# Altium footprint library PcbLib1.PcbLib: 35 footprints (part 2 of 3)
Each footprint in its own frame and in the unit in brackets; x right, y up, seen from the top. Pads: shape width x height; smd on the part's side, far side on the other; paste and mask are expansions set on the pad; w line width, h text height; cw(c..) or ccw(c..) is an arc to the next point about the centre after c.
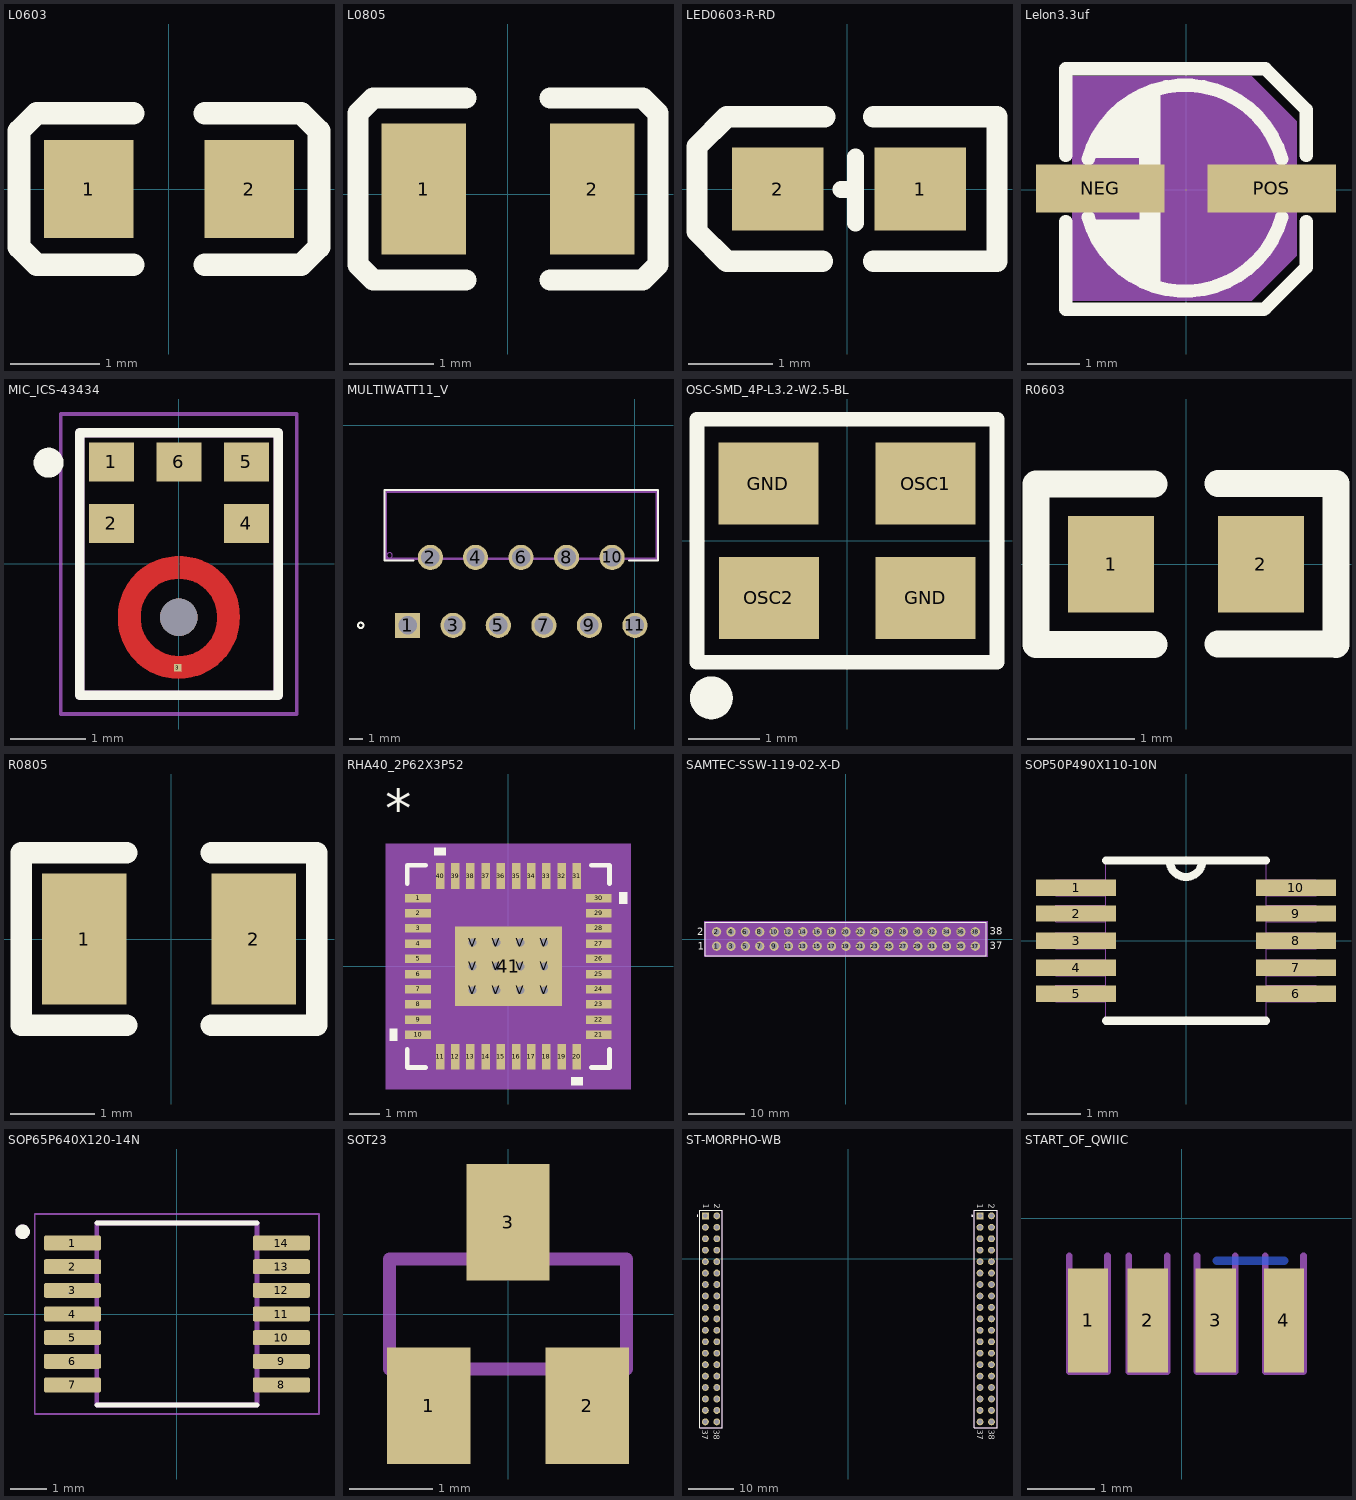
[diagram p1: the footprints below, top view; thin cyan lines are the x and y axes]

## L0603 [mm]
pads (2):
  rect 1x1.1 smd: 1(-0.9,0) 2(0.9,0)
Top Overlay:
  lines w0.254: -0.4,-0.85 -1.48,-0.85 -1.68,-0.65 -1.68,-0.62 -1.68,0.62 -1.68,0.65 -1.48,0.85 -0.4,0.85 ; 0.4,-0.85 1.48,-0.85 1.68,-0.65 1.68,-0.62 1.68,0.62 1.68,0.65 1.48,0.85 0.4,0.85

## L0805 [mm]
pads (2):
  rect 1x1.55 smd: 1(-0.998,0.064) 2(1.002,0.064)
Top Overlay:
  lines w0.254: -0.498,-1.016 -1.548,-1.016 -1.598,-1.016 -1.778,-0.836 -1.778,0.964 -1.598,1.144 -1.548,1.144 -0.498,1.144 ; 0.502,-1.016 1.552,-1.016 1.602,-1.016 1.782,-0.836 1.782,0.964 1.602,1.144 1.552,1.144 0.502,1.144

## LED0603-R-RD [mil]
pads (2):
  rect 43x39 smd: 1(34.5,0) 2(-32.5,0)
Top Overlay:
  lines w7.99: -2.9,-0.31 4,-0.31 ; 4,-16 4,15
  lines w10: -11.5,-34 -56.5,-34 -70.5,-20 -70.5,20 -56.5,34 -10.5,34 ; 12.5,-34 70.5,-34 70.5,34 12.5,34

## Lelon3.3uf [mm]
pads (2):
  rect 2.46x0.91 smd: NEG(-1.64,0.024) POS(1.64,0.024)
Top Overlay:
  region: -0.49,-1.816 -0.49,1.914 -1.17,1.564 -1.54,1.114 -1.78,0.764 -1.84,0.614 -0.89,0.614 -0.88,-0.576 -1.83,-0.576 -1.54,-1.186 -1.17,-1.566 -0.75,-1.766 -0.72,-1.816
  lines w0.254: -2.3,-0.607 -2.3,-2.286 1.49,-2.286 ; -2.3,0.655 -2.3,2.314 1.52,2.314 2.3,1.534 2.3,0.655 ; -1.87,-0.526 ccw(c-0.02,-0.024) 1.83,-0.526 ; -1.87,0.587 cw(c-0.02,0.084) 1.83,0.587 ; 1.52,-2.266 2.3,-1.486 2.3,-0.607
Mechanical 4:
  region: -2.18,-2.126 -2.18,2.174 1.26,2.174 2.12,1.314 2.12,-1.266 1.26,-2.126
Mechanical 5:
  region: -2.31,0.349 -2.31,-0.301 -0.51,-0.301 -0.51,0.349
  region: 2.29,0.349 2.29,-0.301 0.49,-0.301 0.49,0.349
Mechanical 15:
  region: 1.96,-0.016 1.375,-0.016 1.375,0.084 1.96,0.084
  region: 1.65,-0.289 1.65,0.296 1.75,0.296 1.75,-0.289
  region: -1.742,0.066 -1.157,0.066 -1.157,-0.034 -1.742,-0.034

## MIC_ICS-43434 [mm]
pads (7):
  rect 0.6x0.522 smd paste-1: 1(-0.9,1.361) 2(-0.9,0.539) 4(0.9,0.539) 5(0.9,1.361) 6(0,1.361)
  rect 0.1x0.1 smd paste-1 mask+0: 3(-0.015,-1.383)
  round 0.5 hole 0.5 unplated: ""(0,-0.713)
Top Layer:
  region: 249 vertices and 0 holes, not listed, extent -0.81,-1.53 0.81,0.1
Top Overlay:
  circle w0.2: c-1.737,1.35 r0.1
  lines w0.127: -1.325,-1.75 1.325,-1.75 1.325,1.75 -1.325,1.75 -1.325,-1.75
Top Paste:
  drawing of 9 lines, arcs and shapes, not listed
Top Solder:
  circle w0.5: c0,-0.713 r0.665
Mechanical 13:
  lines w0.127: -1.325,-1.753 -1.325,1.747 1.325,1.747 1.325,-1.753 -1.325,-1.753
Mechanical 15:
  lines w0.05: -1.575,-2.003 -1.575,2 1.575,2 1.575,-2.003 -1.575,-2.003

## MULTIWATT11_V [mil]
pads (11):
  rect 74x74 hole 54: 1(-669,-589)
  round 74 hole 54: 2(-602,-389) 3(-535,-589) 4(-469,-389) 5(-402,-589) 6(-335,-389) 7(-268,-589) 8(-201,-389) 9(-134,-589) 10(-67,-389) 11(0,-589)
Top Overlay:
  lines w6: -652,-398 -737,-398 -737,-191 68,-191 68,-398 -18,-398 ; -815,-589 ccw(c-807,-589) -799,-589 ccw(c-807,-589) -815,-589
Mechanical 13:
  lines w0: -730,-383 ccw(c-722,-383) -714,-383 ccw(c-722,-383) -730,-383
  lines w6: -732,-393 63,-393 63,-196 -732,-196 -732,-393

## OSC-SMD_4P-L3.2-W2.5-BL [mm]
pads (4):
  rect 1.4x1.15 smd: GND(-1.1,0.8) GND(1.1,-0.8) OSC1(1.1,0.8) OSC2(-1.092,-0.8)
Top Overlay:
  lines w0.203: -2.1,-1.7 2.1,-1.7 2.1,1.7 -2.1,1.7 -2.1,-1.7
  lines w0.3: -1.9,-2.05 ccw(c-1.899,-2.2) -1.897,-2.05

## R0603 [mm]
pads (2):
  rect 0.8x0.9 smd: 1(-0.7,0) 2(0.7,0)
Top Overlay:
  lines w0.254: -1.401,-0.75 -0.3,-0.75 ; -1.401,0.75 -0.3,0.75 ; -1.4,-0.75 -1.4,0.75 ; 0.301,-0.745 1.401,-0.745 ; 0.301,0.755 1.401,0.755 ; 1.401,-0.75 1.401,0.75

## R0805 [mm]
pads (2):
  rect 1x1.55 smd: 1(-1.028,0.004) 2(0.972,0.004)
Top Overlay:
  lines w0.254: -0.528,-1.016 -1.778,-1.016 -1.778,1.024 -0.528,1.024 ; 0.472,-1.016 1.722,-1.016 1.722,1.024 0.472,1.024

## RHA40_2P62X3P52 [mm]
pads (53):
  rect 0.85x0.28 smd paste-0.412: 1(-2.975,2.25) 2(-2.975,1.75) 3(-2.975,1.25) 4(-2.975,0.75) 5(-2.975,0.25) 6(-2.975,-0.25) 7(-2.975,-0.75) 8(-2.975,-1.25) 9(-2.975,-1.75) 10(-2.975,-2.25) 21(2.975,-2.25) 22(2.975,-1.75) 23(2.975,-1.25) 24(2.975,-0.75) 25(2.975,-0.25) 26(2.975,0.25) 27(2.975,0.75) 28(2.975,1.25) 29(2.975,1.75) 30(2.975,2.25)
  rect 0.28x0.85 smd paste-0.412: 11(-2.251,-2.975) 12(-1.75,-2.975) 13(-1.25,-2.975) 14(-0.75,-2.975) 15(-0.25,-2.975) 16(0.25,-2.975) 17(0.75,-2.975) 18(1.25,-2.975) 19(1.75,-2.975) 20(2.251,-2.975) 31(2.251,2.975) 32(1.75,2.975) 33(1.25,2.975) 34(0.75,2.975) 35(0.25,2.975) 36(-0.25,2.975) 37(-0.75,2.975) 38(-1.25,2.975) 39(-1.75,2.975) 40(-2.251,2.975)
  rect 3.52x2.62 smd paste-1.747 mask-1.753: 41(0,0)
  round 0.508 hole 0.254: V(-1.181,-0.787) V(-1.181,0) V(-1.181,0.787) V(-0.394,-0.787) V(-0.394,0) V(-0.394,0.787) V(0.394,-0.787) V(0.394,0) V(0.394,0.787) V(1.181,-0.787) V(1.181,0) V(1.181,0.787)
Top Overlay:
  region: -3.654,-2.06 -3.908,-2.06 -3.908,-2.441 -3.654,-2.441
  region: 2.441,-3.654 2.06,-3.654 2.06,-3.908 2.441,-3.908
  region: 3.654,2.441 3.908,2.441 3.908,2.06 3.654,2.06
  region: -2.06,3.654 -2.441,3.654 -2.441,3.908 -2.06,3.908
  lines w0.152: -3.329,-2.723 -3.329,-3.329 -2.723,-3.329 ; -3.329,2.723 -3.329,3.329 -2.723,3.329 ; 2.723,-3.329 3.329,-3.329 3.329,-2.723 ; 2.723,3.329 3.329,3.329 3.329,2.723
  text "*" at -4.064,4.572 h1.27
Top Paste:
  drawing of 60 lines, arcs and shapes, not listed
Top Solder:
  drawing of 49 lines, arcs and shapes, not listed
Mechanical 5:
  region: 4.035,-4.035 -4.035,-4.035 -4.035,4.035 4.035,4.035
Mechanical 13:
  lines w0.025: -3.075,1.805 -1.805,3.075 ; -3.075,-3.075 3.075,-3.075 3.075,3.075 -3.075,3.075 -3.075,-3.075 ; -3.075,-2.365 -3.075,-2.135 -3.075,-2.365 ; -3.075,-1.865 -3.075,-1.635 -3.075,-1.865 ; -3.075,-1.365 -3.075,-1.135 -3.075,-1.365 ; -3.075,-0.865 -3.075,-0.635 -3.075,-0.865 ; -3.075,-0.365 -3.075,-0.135 -3.075,-0.365 ; -3.075,0.135 -3.075,0.365 -3.075,0.135 ; -3.075,0.635 -3.075,0.865 -3.075,0.635 ; -3.075,1.135 -3.075,1.365 -3.075,1.135 ; -3.075,1.635 -3.075,1.865 -3.075,1.635 ; -3.075,2.135 -3.075,2.365 -3.075,2.135 ; -2.365,-3.075 -2.135,-3.075 -2.365,-3.075 ; -2.365,3.075 -2.135,3.075 -2.365,3.075 ; -1.865,-3.075 -1.635,-3.075 -1.865,-3.075 ; -1.865,3.075 -1.635,3.075 -1.865,3.075 ; -1.365,-3.075 -1.135,-3.075 -1.365,-3.075 ; -1.365,3.075 -1.135,3.075 -1.365,3.075 ; -0.865,-3.075 -0.635,-3.075 -0.865,-3.075 ; -0.865,3.075 -0.635,3.075 -0.865,3.075 ; -0.365,-3.075 -0.135,-3.075 -0.365,-3.075 ; -0.365,3.075 -0.135,3.075 -0.365,3.075 ; 0.135,-3.075 0.365,-3.075 0.135,-3.075 ; 0.135,3.075 0.365,3.075 0.135,3.075 ; 0.635,-3.075 0.865,-3.075 0.635,-3.075 ; 0.635,3.075 0.865,3.075 0.635,3.075 ; 1.135,-3.075 1.365,-3.075 1.135,-3.075 ; 1.135,3.075 1.365,3.075 1.135,3.075 ; 1.635,-3.075 1.865,-3.075 1.635,-3.075 ; 1.635,3.075 1.865,3.075 1.635,3.075 ; 2.135,-3.075 2.365,-3.075 2.135,-3.075 ; 2.135,3.075 2.365,3.075 2.135,3.075 ; 3.075,-2.365 3.075,-2.135 3.075,-2.365 ; 3.075,-1.865 3.075,-1.635 3.075,-1.865 ; 3.075,-1.365 3.075,-1.135 3.075,-1.365 ; 3.075,-0.865 3.075,-0.635 3.075,-0.865 ; 3.075,-0.365 3.075,-0.135 3.075,-0.365 ; 3.075,0.135 3.075,0.365 3.075,0.135 ; 3.075,0.635 3.075,0.865 3.075,0.635 ; 3.075,1.135 3.075,1.365 3.075,1.135 ; 3.075,1.635 3.075,1.865 3.075,1.635 ; 3.075,2.135 3.075,2.365 3.075,2.135
  text "*" at -4.064,4.572 h1.27
Mechanical 15:
  region: 3.654,-3.654 -3.654,-3.654 -3.654,3.654 3.654,3.654
  lines w0.152: -3.654,-3.654 -3.654,3.654 3.654,3.654 3.654,-3.654 -3.654,-3.654
3D body: height 0.25, standoff 0, extent 0,0 0.254,0.254

## SAMTEC-SSW-119-02-X-D [mm]
pads (38):
  round 1.64 hole 1.04 mask+0: 1(-22.86,-1.27) 2(-22.86,1.27) 3(-20.32,-1.27) 4(-20.32,1.27) 5(-17.78,-1.27) 6(-17.78,1.27) 7(-15.24,-1.27) 8(-15.24,1.27) 9(-12.7,-1.27) 10(-12.7,1.27) 11(-10.16,-1.27) 12(-10.16,1.27) 13(-7.62,-1.27) 14(-7.62,1.27) 15(-5.08,-1.27) 16(-5.08,1.27) 17(-2.54,-1.27) 18(-2.54,1.27) 19(0,-1.27) 20(0,1.27) 21(2.54,-1.27) 22(2.54,1.27) 23(5.08,-1.27) 24(5.08,1.27) 25(7.62,-1.27) 26(7.62,1.27) 27(10.16,-1.27) 28(10.16,1.27) 29(12.7,-1.27) 30(12.7,1.27) 31(15.24,-1.27) 32(15.24,1.27) 33(17.78,-1.27) 34(17.78,1.27) 35(20.32,-1.27) 36(20.32,1.27) 37(22.86,-1.27) 38(22.86,1.27)
Top Overlay:
  lines w0.2: -24.834,-2.927 24.834,-2.927 24.834,2.927 -24.834,2.927 -24.834,-2.927
  text "38" at 25.429,0.762 h1.27
  text "37" at 25.4,-1.778 h1.27
  text "2" at -26.331,0.635 h1.27
  text "1" at -26.162,-1.905 h1.27
Top Solder:
  circle w0: c22.86,-1.27 r0.871
  circle w0: c22.86,1.27 r0.871
  circle w0: c20.32,-1.27 r0.871
  circle w0: c20.32,1.27 r0.871
  circle w0: c17.78,-1.27 r0.871
  circle w0: c17.78,1.27 r0.871
  circle w0: c15.24,-1.27 r0.871
  circle w0: c15.24,1.27 r0.871
  circle w0: c12.7,-1.27 r0.871
  circle w0: c12.7,1.27 r0.871
  circle w0: c10.16,-1.27 r0.871
  circle w0: c10.16,1.27 r0.871
  circle w0: c7.62,-1.27 r0.871
  circle w0: c7.62,1.27 r0.871
  circle w0: c5.08,-1.27 r0.871
  circle w0: c5.08,1.27 r0.871
  circle w0: c2.54,-1.27 r0.871
  circle w0: c2.54,1.27 r0.871
  circle w0: c0,-1.27 r0.871
  circle w0: c0,1.27 r0.871
  circle w0: c-2.54,-1.27 r0.871
  circle w0: c-2.54,1.27 r0.871
  circle w0: c-5.08,-1.27 r0.871
  circle w0: c-5.08,1.27 r0.871
  circle w0: c-7.62,-1.27 r0.871
  circle w0: c-7.62,1.27 r0.871
  circle w0: c-10.16,-1.27 r0.871
  circle w0: c-10.16,1.27 r0.871
  circle w0: c-12.7,-1.27 r0.871
  circle w0: c-12.7,1.27 r0.871
  circle w0: c-15.24,-1.27 r0.871
  circle w0: c-15.24,1.27 r0.871
  circle w0: c-17.78,-1.27 r0.871
  circle w0: c-17.78,1.27 r0.871
  circle w0: c-20.32,-1.27 r0.871
  circle w0: c-20.32,1.27 r0.871
  circle w0: c-22.86,-1.27 r0.871
  circle w0: c-22.86,1.27 r0.871
Bottom Solder:
  circle w0: c22.86,-1.27 r0.871
  circle w0: c22.86,1.27 r0.871
  circle w0: c20.32,-1.27 r0.871
  circle w0: c20.32,1.27 r0.871
  circle w0: c17.78,-1.27 r0.871
  circle w0: c17.78,1.27 r0.871
  circle w0: c15.24,-1.27 r0.871
  circle w0: c15.24,1.27 r0.871
  circle w0: c12.7,-1.27 r0.871
  circle w0: c12.7,1.27 r0.871
  circle w0: c10.16,-1.27 r0.871
  circle w0: c10.16,1.27 r0.871
  circle w0: c7.62,-1.27 r0.871
  circle w0: c7.62,1.27 r0.871
  circle w0: c5.08,-1.27 r0.871
  circle w0: c5.08,1.27 r0.871
  circle w0: c2.54,-1.27 r0.871
  circle w0: c2.54,1.27 r0.871
  circle w0: c0,-1.27 r0.871
  circle w0: c0,1.27 r0.871
  circle w0: c-2.54,-1.27 r0.871
  circle w0: c-2.54,1.27 r0.871
  circle w0: c-5.08,-1.27 r0.871
  circle w0: c-5.08,1.27 r0.871
  circle w0: c-7.62,-1.27 r0.871
  circle w0: c-7.62,1.27 r0.871
  circle w0: c-10.16,-1.27 r0.871
  circle w0: c-10.16,1.27 r0.871
  circle w0: c-12.7,-1.27 r0.871
  circle w0: c-12.7,1.27 r0.871
  circle w0: c-15.24,-1.27 r0.871
  circle w0: c-15.24,1.27 r0.871
  circle w0: c-17.78,-1.27 r0.871
  circle w0: c-17.78,1.27 r0.871
  circle w0: c-20.32,-1.27 r0.871
  circle w0: c-20.32,1.27 r0.871
  circle w0: c-22.86,-1.27 r0.871
  circle w0: c-22.86,1.27 r0.871
Mechanical 13:
  drawing of 196 lines, arcs and shapes, not listed
  text "2" at -26.331,0.635 h1.27
  text "38" at 25.429,0.762 h1.27
  text "37" at 25.4,-1.778 h1.27
  text "1" at -26.162,-1.905 h1.27
Mechanical 15:
  region: 25.069,-3.162 -25.069,-3.162 -25.069,3.162 25.069,3.162

## SOP50P490X110-10N [mil]
pads (10):
  rect 59x12 smd: 1(-81,39) 2(-81,20) 3(-81,0) 4(-81,-20) 5(-81,-39) 6(81,-39) 7(81,-20) 8(81,0) 9(81,20) 10(81,39)
Top Overlay:
  lines w6: -59,-59 59,-59 ; -59,59 -12,59 ; 59,59 12,59 ; -12,59 ccw(c0,59) 12,59 ; -12,59 12,59
Mechanical 13:
  lines w0: -12,59 ccw(c0,59) 12,59 ; -12,59 -59,59 -59,-59 59,-59 59,59 12,59 ; -12,59 12,59 ; -96,-45 -59,-45 -59,-33 -96,-33 -96,-45 ; -96,-26 -59,-26 -59,-14 -96,-14 -96,-26 ; -96,-6 -59,-6 -59,6 -96,6 -96,-6 ; -96,14 -59,14 -59,26 -96,26 -96,14 ; -96,33 -59,33 -59,45 -96,45 -96,33 ; 59,-45 96,-45 96,-33 59,-33 59,-45 ; 59,-26 96,-26 96,-14 59,-14 59,-26 ; 59,-6 96,-6 96,6 59,6 59,-6 ; 59,14 96,14 96,26 59,26 59,14 ; 59,33 96,33 96,45 59,45 59,33

## SOP65P640X120-14N [mm]
pads (14):
  rrect25% 1.57x0.41 smd: 1(-2.87,1.95) 2(-2.87,1.3) 3(-2.87,0.65) 4(-2.87,0) 5(-2.87,-0.65) 6(-2.87,-1.3) 7(-2.87,-1.95) 8(2.87,-1.95) 9(2.87,-1.3) 10(2.87,-0.65) 11(2.87,0) 12(2.87,0.65) 13(2.87,1.3) 14(2.87,1.95)
Top Overlay:
  circle w0.2: c-4.24,2.26 r0.1
  lines w0.127: -2.2,-2.5 2.2,-2.5 ; -2.2,2.5 2.2,2.5
Mechanical 13:
  circle w0.2: c-4.24,2.26 r0.1
  lines w0.127: -2.2,-2.5 2.2,-2.5 2.2,2.5 -2.2,2.5 -2.2,-2.5
Mechanical 15:
  lines w0.05: -3.905,-2.75 3.905,-2.75 3.905,2.75 -3.905,2.75 -3.905,-2.75

## SOT23 [mm]
pads (3):
  rect 1x1.4 smd: 1(-0.95,-1.1) 2(0.95,-1.1) 3(0,1.1)
Mechanical 13:
  region: -0.711,-1.297 -1.17,-1.297 -1.17,-0.711 -0.711,-0.711
  region: 1.168,-1.297 0.712,-1.297 0.712,-0.711 1.168,-0.711
  region: 0.229,0.711 -0.229,0.711 -0.229,1.295 0.229,1.295
  lines w0.152: -1.422,-0.66 -1.422,0.66 1.422,0.66 1.422,-0.66 -1.422,-0.66

## ST-MORPHO-WB [mm]
pads (76):
  rect 1.53x1.53 hole 1.02: CN7_1(-31.75,9.51) CN10_1(29.21,9.51)
  round 1.53 hole 1.02: CN7_2(-29.21,9.51) CN7_3(-31.75,6.97) CN7_4(-29.21,6.97) CN7_5(-31.75,4.43) CN7_6(-29.21,4.43) CN7_7(-31.75,1.89) CN7_8(-29.21,1.89) CN7_9(-31.75,-0.65) CN7_10(-29.21,-0.65) CN7_11(-31.75,-3.19) CN7_12(-29.21,-3.19) CN7_13(-31.75,-5.73) CN7_14(-29.21,-5.73) CN7_15(-31.75,-8.27) CN7_16(-29.21,-8.27) CN7_17(-31.75,-10.81) CN7_18(-29.21,-10.81) CN7_19(-31.75,-13.35) CN7_20(-29.21,-13.35) CN7_21(-31.75,-15.89) CN7_22(-29.21,-15.89) CN7_23(-31.75,-18.43) CN7_24(-29.21,-18.43) CN7_25(-31.75,-20.97) CN7_26(-29.21,-20.97) CN7_27(-31.75,-23.51) CN7_28(-29.21,-23.51) CN7_29(-31.75,-26.05) CN7_30(-29.21,-26.05) CN7_31(-31.75,-28.59) CN7_32(-29.21,-28.59) CN7_33(-31.75,-31.13) CN7_34(-29.21,-31.13) CN7_35(-31.75,-33.67) CN7_36(-29.21,-33.67) CN7_37(-31.75,-36.21) CN7_38(-29.21,-36.21) CN10_2(31.75,9.51) CN10_3(29.21,6.97) CN10_4(31.75,6.97) CN10_5(29.21,4.43) CN10_6(31.75,4.43) CN10_7(29.21,1.89) CN10_8(31.75,1.89) CN10_9(29.21,-0.65) CN10_10(31.75,-0.65) CN10_11(29.21,-3.19) CN10_12(31.75,-3.19) CN10_13(29.21,-5.73) CN10_14(31.75,-5.73) CN10_15(29.21,-8.27) CN10_16(31.75,-8.27) CN10_17(29.21,-10.81) CN10_18(31.75,-10.81) CN10_19(29.21,-13.35) CN10_20(31.75,-13.35) CN10_21(29.21,-15.89) CN10_22(31.75,-15.89) CN10_23(29.21,-18.43) CN10_24(31.75,-18.43) CN10_25(29.21,-20.97) CN10_26(31.75,-20.97) CN10_27(29.21,-23.51) CN10_28(31.75,-23.51) CN10_29(29.21,-26.05) CN10_30(31.75,-26.05) CN10_31(29.21,-28.59) CN10_32(31.75,-28.59) CN10_33(29.21,-31.13) CN10_34(31.75,-31.13) CN10_35(29.21,-33.67) CN10_36(31.75,-33.67) CN10_37(29.21,-36.21) CN10_38(31.75,-36.21)
Top Overlay:
  circle w0.2: c-33.5,9.51 r0.1
  circle w0.2: c27.46,9.51 r0.1
  lines w0.127: -32.98,-37.48 -32.98,10.78 -27.98,10.78 -27.98,-37.48 -32.98,-37.48 ; 27.98,-37.48 27.98,10.78 32.98,10.78 32.98,-37.48 27.98,-37.48
  text "38" at -29.845,-38.002 h1.27
  text "37" at -32.385,-37.973 h1.27
  text "38" at 31.115,-38.002 h1.27
  text "37" at 28.575,-37.973 h1.27
  text "2" at -29.718,12.163 h1.27
  text "1" at -32.258,12.192 h1.27
  text "2" at 31.115,12.163 h1.27
  text "1" at 28.575,12.192 h1.27
Mechanical 13:
  circle w0.2: c-33.5,9.51 r0.1
  circle w0.2: c27.46,9.51 r0.1
  lines w0.127: -32.98,-37.48 -32.98,10.78 -27.98,10.78 -27.98,-37.48 -32.98,-37.48 ; 27.98,-37.48 27.98,10.78 32.98,10.78 32.98,-37.48 27.98,-37.48
  text "38" at -29.845,-38.002 h1.27
  text "37" at -32.385,-37.973 h1.27
  text "38" at 31.115,-38.002 h1.27
  text "37" at 28.575,-37.973 h1.27
  text "2" at -29.718,12.163 h1.27
  text "1" at -32.258,12.192 h1.27
  text "2" at 31.115,12.163 h1.27
  text "1" at 28.575,12.192 h1.27

## START_OF_QWIIC [mm]
pads (4):
  rect 0.6x1.55 smd paste+0 mask+0: 1(-1.397,-1.524) 2(-0.508,-1.524) 3(0.508,-1.524) 4(1.524,-1.524)
Bottom Layer:
  lines w0.127: 0.524,-0.635 1.524,-0.635
Mechanical 13:
  lines w0.1: -1.678,-0.56 -1.678,-2.286 -1.106,-2.286 -1.106,-0.56 ; -0.789,-0.56 -0.789,-2.286 -0.217,-2.286 -0.217,-0.56 ; 0.227,-0.56 0.227,-2.286 0.799,-2.286 0.799,-0.56 ; 1.243,-0.56 1.243,-2.286 1.815,-2.286 1.815,-0.56